# Altium footprint library IMU_MPU6050.PcbLib: 1 footprints
Each footprint in its own frame and in the unit in brackets; x right, y up, seen from the top. Pads: shape width x height; smd on the part's side, far side on the other; paste and mask are expansions set on the pad; w line width, h text height; cw(c..) or ccw(c..) is an arc to the next point about the centre after c.
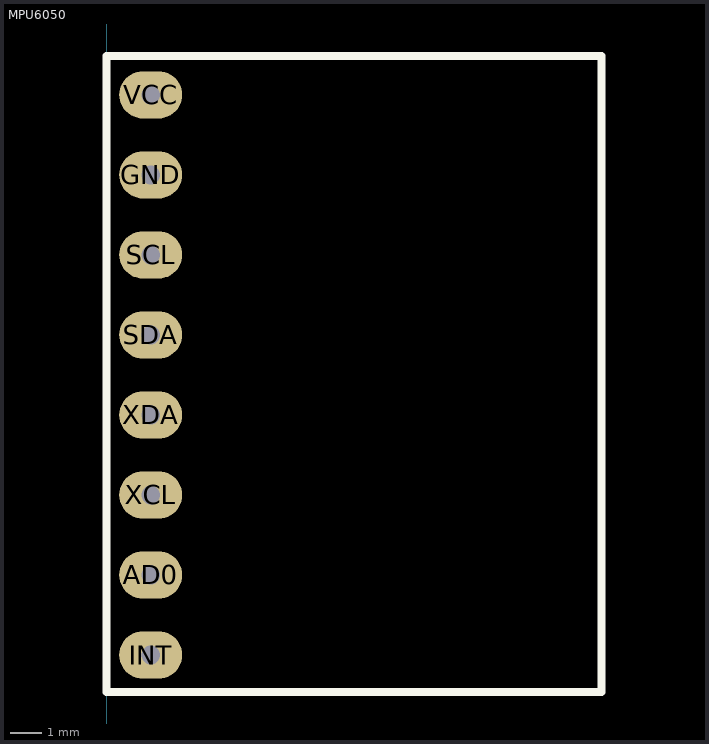
[diagram p0: the footprint, top view; thin cyan lines are the x and y axes]

## MPU6050 [mm]
pads (8):
  oval 2x1.5 hole 0.6: AD0(1.397,-17.78) GND(1.397,-5.08) INT(1.397,-20.32) SCL(1.397,-7.62) SDA(1.397,-10.16) VCC(1.397,-2.54) XCL(1.397,-15.24) XDA(1.397,-12.7)
Top Overlay:
  lines w0.254: 0,-21.5 15.7,-21.5 15.7,-1.3 0,-1.3 0,-21.5
3D body "MPU_6050.step": height 1.5, standoff -1.5, extent -0.177,-21.629 15.823,-1.129